# EAGLE library part STEPS_BLK_BOX_SHIELD (library stepOSP)
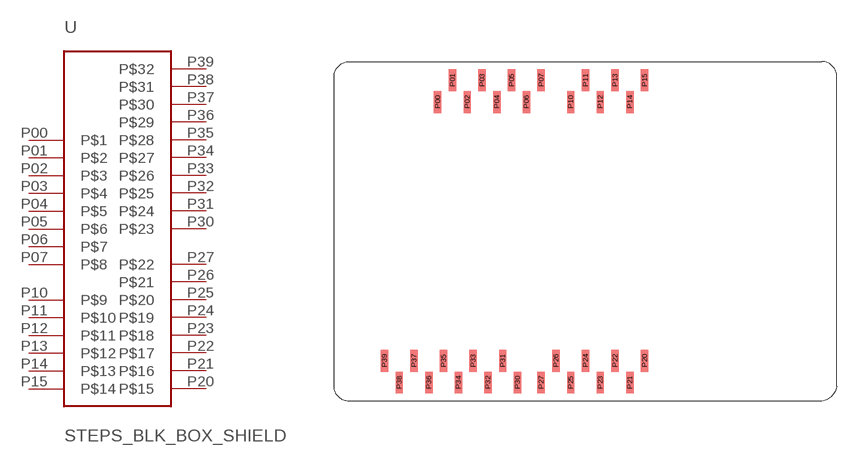
[diagram p13: symbol with the pads of STEPS_BLK_BOX_LAYOUT2; footprint STEPS_BLK_BOX_LAYOUT2]

Designator prefix -

## STEPS_BLK_BOX_SHIELD  [STEPS_BLK_BOX_LAYOUT2]
P00  P$1
P01  P$2
P02  P$3
P03  P$4
P04  P$5
P05  P$6
P06  P$7
P07  P$8
P10  P$9
P11  P$10
P12  P$11
P13  P$12
P14  P$13
P15  P$14
P20  P$15
P21  P$16
P22  P$17
P23  P$18
P24  P$19
P25  P$20
P26  P$21
P27  P$22
P30  P$23
P31  P$24
P32  P$25
P33  P$26
P34  P$27
P35  P$28
P36  P$29
P37  P$30
P38  P$31
P39  P$32

## Footprint STEPS_BLK_BOX_LAYOUT2 (pad centres in mm)
smd 1.27 x 3.747: P00 27.94,-4.413; P01 30.48,-0.667; P02 33.02,-4.413; P03 35.56,-0.667; P04 38.1,-4.413; P05 40.64,-0.667; P06 43.18,-4.413; P07 45.72,-0.667; P10 50.8,-4.413; P11 53.34,-0.667; P12 55.88,-4.413; P13 58.42,-0.667; P14 60.96,-4.413; P15 63.5,-0.667; P20 63.5,-48.927; P21 60.96,-52.673; P22 58.42,-48.927; P23 55.88,-52.673; P24 53.34,-48.927; P25 50.8,-52.673; P26 48.26,-48.927; P27 45.72,-52.673; P30 41.656,-52.673; P31 39.116,-48.927; P32 36.576,-52.673; P33 34.036,-48.927; P34 31.496,-52.673; P35 28.956,-48.927; P36 26.416,-52.673; P37 23.876,-48.927; P38 21.336,-52.673; P39 18.796,-48.927